# Altium schematic symbol library new_lib.SchLib: 8 symbols
Pins are listed as number, name and electrical type; pins without a type are passive.

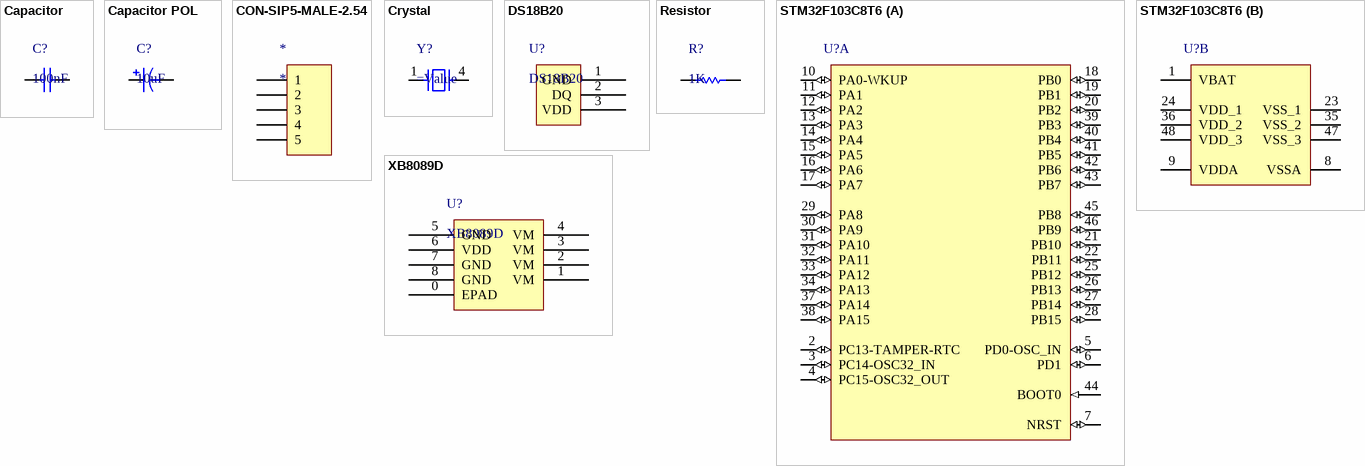
[diagram p0: symbols Capacitor to XB8089D]

## Capacitor
designator C?, comment 100nF
Cap X7R 100nF 16V 10% smd0402; Value: 100nF
footprint LC-0201_C
footprint LC-0402_C
footprint LC-0603_C
footprint LC-0805_C
pins: 1, 2

## Capacitor POL
designator C?, comment 10uF
CAP TAN 10uF 16V 10% B3528; Value: 10uF
footprint LC-CASE-A_3216
footprint LC-CASE-B_3528
footprint LC-CASE-C_6032
footprint LC-CASE-D_7343
pins: 1, 2

## CON-SIP5-MALE-2.54
designator *
footprint CON-SIP-MALE-2.54
pins: 1, 2, 3, 4, 5

## Crystal
designator Y?
Crys 32.768kHz +/-20ppm MC-306; Vaule: 32.768kHz
footprint SU_MC306
pins: 1, 4

## DS18B20
designator U?
单线数字温度传感器; Value: DS18B20
footprint LC-TO-92(TO-92-3)
pins: 1 GND (power), 2 DQ (power), 3 VDD (power)

## Resistor
designator R?, comment 1K
Res 1K 1% 1/16W smd0402; Value: 1K
footprint LC-0201_R
footprint LC-0402_R
footprint LC-0603_R
footprint LC-0805_R
footprint LC-1206_R
footprint LC-1210_R
footprint LC-1806_R
footprint LC-1808_R
footprint LC-1812_R
footprint LC-1825_R
pins: 1, 2

## STM32F103C8T6
designator U?
STM32 ARM-based 32-bit MCU Performance Line with 64 kB Flash, 20 kB Internal RAM, -40 to +85℃ Temperature, 48-Pin LQFP, Tray; DatasheetVersion: rev13.0, Apr-2011; PackageVersion: rev13, Apr-2011; PackageReference: LQFP48; PackageDescription: 48-Pin Low-Profile Quad Flat Pack, 7 x 7 mm Body, 0.5 mm Pitch (LQFP48); ComponentLink1Description: Manufacturer URL; ComponentLink1URL: http://www.st.com/; ComponentLink2Description: STM32F103 Datasheet; ComponentLink2URL: http://www.st.com/internet/com/TECHNICAL_RESOURCES/TECHNICAL_LITERATURE/DATASHEET/CD00161566.pdf; ComponentLink3Description: STM32 Family Web Page; ComponentLink3URL: www.st.com/stm32
footprint LC-LQFP-48_7x7x05P
part A pins: 2 PC13-TAMPER-RTC (io), 3 PC14-OSC32_IN (io), 4 PC15-OSC32_OUT (io), 5 PD0-OSC_IN (io), 6 PD1 (io), 7 NRST (io), 10 PA0-WKUP (io), 11 PA1 (io), 12 PA2 (io), 13 PA3 (io), 14 PA4 (io), 15 PA5 (io), 16 PA6 (io), 17 PA7 (io), 18 PB0 (io), 19 PB1 (io), 20 PB2 (io), 21 PB10 (io), 22 PB11 (io), 25 PB12 (io), 26 PB13 (io), 27 PB14 (io), 28 PB15 (io), 29 PA8 (io), 30 PA9 (io), 31 PA10 (io), 32 PA11 (io), 33 PA12 (io), 34 PA13 (io), 37 PA14 (io), 38 PA15 (io), 39 PB3 (io), 40 PB4 (io), 41 PB5 (io), 42 PB6 (io), 43 PB7 (io), 44 BOOT0 (in), 45 PB8 (io), 46 PB9 (io)
part B pins: 1 VBAT (power), 8 VSSA (power), 9 VDDA (power), 23 VSS_1 (power), 24 VDD_1 (power), 35 VSS_2 (power), 36 VDD_2 (power), 47 VSS_3 (power), 48 VDD_3 (power)

## XB8089D
designator U?
锂电池充放电保护芯片，过充电压4.25V，过放电压2.5V,过流保护电流值10A,导通电阻20mΩ; Value: XB8089D
footprint LC-SOP-8_EP_150mil
pins: 0 EPAD (power), 1 VM (power), 2 VM (power), 3 VM (power), 4 VM (power), 5 GND (power), 6 VDD (power), 7 GND (power), 8 GND (power)